# Altium footprint library SamacSys.PcbLib: 2 footprints
Each footprint in its own frame and in the unit in brackets; x right, y up, seen from the top. Pads: shape width x height; smd on the part's side, far side on the other; paste and mask are expansions set on the pad; w line width, h text height; cw(c..) or ccw(c..) is an arc to the next point about the centre after c.
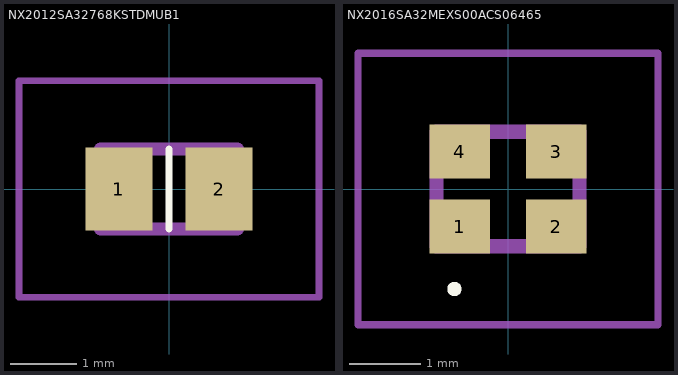
[diagram p0: the footprints below, top view; thin cyan lines are the x and y axes]

## NX2012SA32768KSTDMUB1 [mm]
pads (2):
  rect 1x1.25 smd: 1(-0.75,0) 2(0.75,0)
Top Overlay:
  lines w0.1: 0,-0.6 0,0.6 0,-0.6
Mechanical 13:
  lines w0.2: -1.025,-0.6 1.025,-0.6 1.025,0.6 -1.025,0.6 -1.025,-0.6
Mechanical 15:
  lines w0.1: -2.25,-1.625 2.25,-1.625 2.25,1.625 -2.25,1.625 -2.25,-1.625
3D body "NX2012SA-32.768K-STD-MUB-1.stp": height 0.55, standoff 0, extent -1.025,-0.6 1.025,0.6

## NX2016SA32MEXS00ACS06465 [mm]
pads (4):
  rect 0.85x0.75 smd: 1(-0.675,-0.525) 2(0.675,-0.525) 3(0.675,0.525) 4(-0.675,0.525)
Top Overlay:
  lines w0.1: -0.8,-1.4 ccw(c-0.75,-1.4) -0.7,-1.4 ccw(c-0.75,-1.4) -0.8,-1.4
Mechanical 13:
  lines w0.2: -1,-0.8 1,-0.8 1,0.8 -1,0.8 -1,-0.8
Mechanical 15:
  lines w0.1: -2.1,-1.9 2.1,-1.9 2.1,1.9 -2.1,1.9 -2.1,-1.9
3D body "NX2016SA-32M-EXS00A-CS06465.stp": height 0.46, standoff 0, extent -1,-0.8 1,0.8